# EAGLE library part TAS5615 (library Labor)
TAS5615 160 W STEREO/300W MONO PurePathTM HD Analog-Input Power Stage
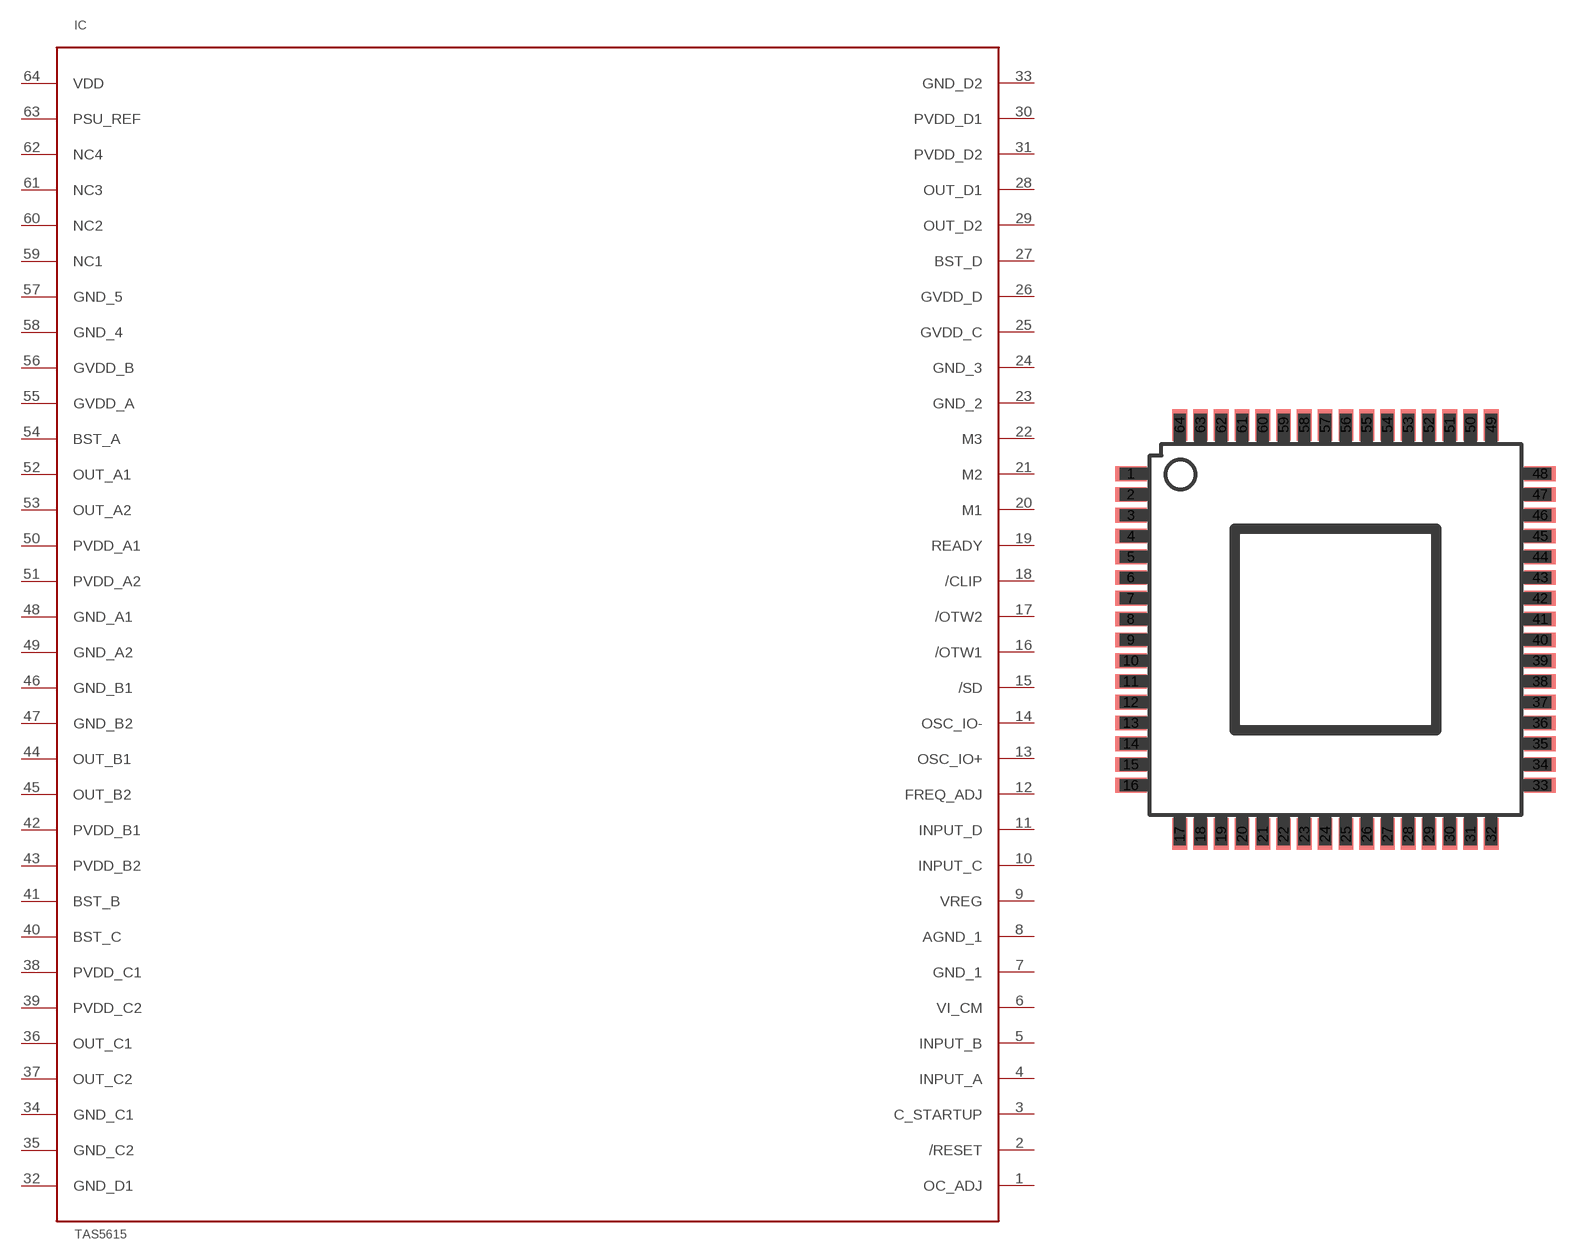
[diagram p6: symbol with the pads of PHD; footprint PHD]

Designator prefix IC

## TAS5615  [PHD]
1  OC_ADJ  out
2  /RESET  in
3  C_STARTUP  out
4  INPUT_A  in
5  INPUT_B  in
6  VI_CM  out
7  GND_1  pwr
8  AGND_1  pwr
9  VREG  pwr
10  INPUT_C  in
11  INPUT_D  in
12  FREQ_ADJ  in
13  OSC_IO+
14  OSC_IO-
15  /SD  out
16  /OTW1  out
17  /OTW2  out
18  /CLIP  out
19  READY  out
20  M1  in
21  M2  in
22  M3  in
23  GND_2  pwr
24  GND_3  pwr
25  GVDD_C  pwr
26  GVDD_D  pwr
27  BST_D  pwr
28  OUT_D1  pwr
29  OUT_D2  pwr
30  PVDD_D1  pwr
31  PVDD_D2  pwr
32  GND_D1  pwr
33  GND_D2  pwr
34  GND_C1  pwr
35  GND_C2  pwr
36  OUT_C1  out
37  OUT_C2  out
38  PVDD_C1  pwr
39  PVDD_C2  pwr
40  BST_C  pwr
41  BST_B  pwr
42  PVDD_B1  pwr
43  PVDD_B2  pwr
44  OUT_B1  out
45  OUT_B2  out
46  GND_B1  pwr
47  GND_B2  pwr
48  GND_A1  pwr
49  GND_A2  pwr
50  PVDD_A1  pwr
51  PVDD_A2  pwr
52  OUT_A1  out
53  OUT_A2  out
54  BST_A  pwr
55  GVDD_A  pwr
56  GVDD_B  pwr
57  GND_5  pwr
58  GND_4  pwr
59  NC1  pwr
60  NC2  pwr
61  NC3  pwr
62  NC4  pwr
63  PSU_REF  pwr
64  VDD  pwr

## Footprint PHD (pad centres in mm)
PHD (S-PQFP-G64) PowerPAD Plastic quad flatpack (DIE down)
smd 1.194 x 0.559: 1 -7.76,5.905; 2 -7.76,5.118; 3 -7.76,4.331; 4 -7.76,3.543; 5 -7.76,2.756; 6 -7.76,1.968; 7 -7.76,1.181; 8 -7.76,0.394; 9 -7.76,-0.394; 10 -7.76,-1.181; 11 -7.76,-1.968; 12 -7.76,-2.756; 13 -7.76,-3.543; 14 -7.76,-4.331; 15 -7.76,-5.118; 16 -7.76,-5.905; 33 7.76,-5.905; 34 7.76,-5.118; 35 7.76,-4.331; 36 7.76,-3.543; 37 7.76,-2.756; 38 7.76,-1.968; 39 7.76,-1.181; 40 7.76,-0.394; 41 7.76,0.394; 42 7.76,1.181; 43 7.76,1.968; 44 7.76,2.756; 45 7.76,3.543; 46 7.76,4.331; 47 7.76,5.118; 48 7.76,5.905
smd 0.559 x 1.194: 17 -5.905,-7.76; 18 -5.118,-7.76; 19 -4.331,-7.76; 20 -3.543,-7.76; 21 -2.756,-7.76; 22 -1.968,-7.76; 23 -1.181,-7.76; 24 -0.394,-7.76; 25 0.394,-7.76; 26 1.181,-7.76; 27 1.968,-7.76; 28 2.756,-7.76; 29 3.543,-7.76; 30 4.331,-7.76; 31 5.118,-7.76; 32 5.905,-7.76; 49 5.905,7.76; 50 5.118,7.76; 51 4.331,7.76; 52 3.543,7.76; 53 2.756,7.76; 54 1.968,7.76; 55 1.181,7.76; 56 0.394,7.76; 57 -0.394,7.76; 58 -1.181,7.76; 59 -1.968,7.76; 60 -2.756,7.76; 61 -3.543,7.76; 62 -4.331,7.76; 63 -5.118,7.76; 64 -5.905,7.76